# EAGLE library part MCP23008 (library bschulz)
MCP23008 - I2C I/O Expander, 8 bit wtih interrupt and reset Characteristics: Vcc: 1.8V ~ 5.5V IOut: 25 mA IQ: 1μA Operating Temperature: -40°C to 85°C Internal Configurable Pullups Digikey: MCP23008T-E/MLCT-ND (QFN) <https://www.digikey.com/product-detail/en/microchip-technology/MCP23008T-E-ML/MCP23008T-E-MLCT-ND/7916525> MCP23008T-E/SOCT-ND (SOIC) <https://www.digikey.com/product-detail/en/microchip-technology/MCP23008T-E-SO/MCP23008T-E-SOCT-ND/5358243> MCP23008T-E/SSCT-ND (SSOP) <https://www.digikey.com/product-detail/en/microchip-technology/MCP23008T-E-SS/MCP23008T-E-SSCT-ND/5013523>
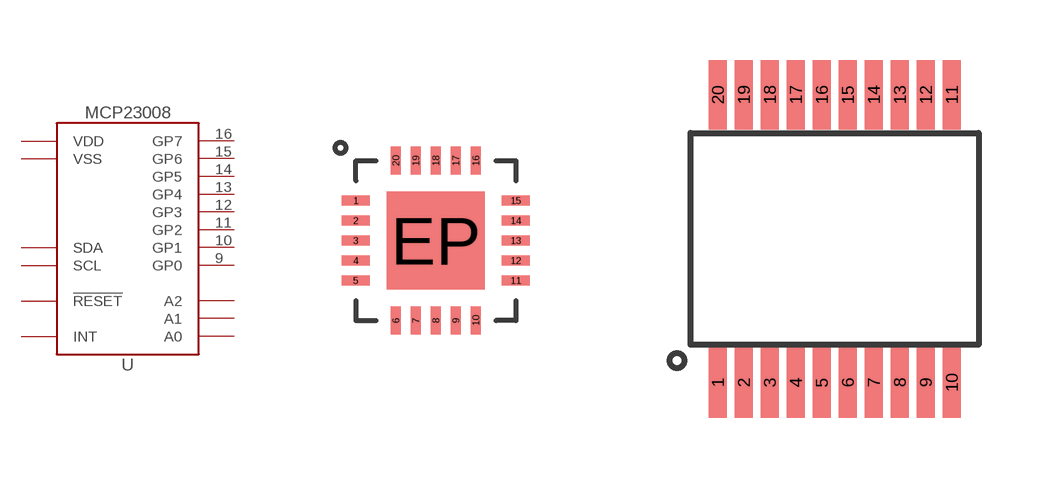
[diagram p111: symbol with the pads of QFN20; footprints QFN20, SSOP20]

Designator prefix U

## MCP23008QFN (DIGIKEY: MCP23008T-E/MLCT-ND; MF: Microchip; MPN: MCP23008T-E/ML)  [QFN20]
1  A2  in
2  A1  in
3  A0  in
4  !RESET  in
7  INT  out
9  GP0
10  GP1
11  GP2
12  GP3
13  GP4
14  GP5
15  GP6
16  GP7
17  VSS  pwr
18  VDD  pwr
19  SCL  in
20  SDA
EP  VSS  pwr

## MCP23008SSOP (DIGIKEY: MCP23008T-E/SSCT-ND; MF: Microchip; MPN: MCP23008T-E/SS)  [SSOP20]
1  SCL  in
2  SDA
3  A2  in
4  A1  in
5  A0  in
6  !RESET  in
8  INT  out
9  VSS  pwr
12  GP0
13  GP1
14  GP2
15  GP3
16  GP4
17  GP5
18  GP6
19  GP7
20  VDD  pwr

## Footprint QFN20 (pad centres in mm)
QFN, 20 pos, 0.5mm pitch, 4x4mm body
smd 0.7 x 0.25: 1 -2.032,0.968; 2 -2.032,0.468; 3 -2.032,-0.032; 4 -2.032,-0.532; 5 -2.032,-1.032; 11 1.968,-1.032; 12 1.968,-0.532; 13 1.968,-0.032; 14 1.968,0.468; 15 1.968,0.968
smd 0.25 x 0.7: 6 -1.032,-2.032; 7 -0.532,-2.032; 8 -0.032,-2.032; 9 0.468,-2.032; 10 0.968,-2.032; 16 0.968,1.968; 17 0.468,1.968; 18 -0.032,1.968; 19 -0.532,1.968; 20 -1.032,1.968
smd 2.45 x 2.45: EP -0.032,-0.032

## Footprint SSOP20 (pad centres in mm)
SSOP 20, 0.65mm pitch, 5.3mm body Ref Datasheet <http://www.microchip.com/mymicrochip/filehandler.aspx?ddocname=en021920>
smd 0.45 x 1.75: 1 -2.925,-3.6; 2 -2.275,-3.6; 3 -1.625,-3.6; 4 -0.975,-3.6; 5 -0.325,-3.6; 6 0.325,-3.6; 7 0.975,-3.6; 8 1.625,-3.6; 9 2.275,-3.6; 10 2.925,-3.6; 11 2.925,3.6; 12 2.275,3.6; 13 1.625,3.6; 14 0.975,3.6; 15 0.325,3.6; 16 -0.325,3.6; 17 -0.975,3.6; 18 -1.625,3.6; 19 -2.275,3.6; 20 -2.925,3.6